# Altium schematic symbol library ADC1175-50CIMTXNOPB.SchLib: 1 symbol
Pins are listed as number, name and electrical type; pins without a type are passive.

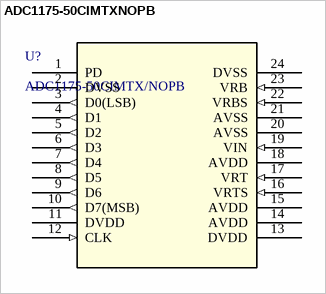
[diagram p0: symbol ADC1175-50CIMTXNOPB]

## ADC1175-50CIMTXNOPB
designator U?, comment ADC1175-50CIMTX/NOPB
8-Bit 50MSPS Analog-to-Digital Converter (ADC) 24-TSSOP -20 to 75; Manufacturer_Name: Texas Instruments; Copyright: Copyright (C) 2026 Ultra Librarian. All rights reserved.; Manufacturer_Part_Number: ADC1175-50CIMTX/NOPB; RefDes: RefDes; Type: Type
footprint PW24_TEX
pins: 1 PD (power), 2 DVSS (power), 3 D0(LSB) (out), 4 D1 (out), 5 D2 (out), 6 D3 (out), 7 D4 (out), 8 D5 (out), 9 D6 (out), 10 D7(MSB) (out), 11 DVDD (power), 12 CLK (in), 13 DVDD (power), 14 AVDD (power), 15 AVDD (power), 16 VRTS (in), 17 VRT (in), 18 AVDD (power), 19 VIN (in), 20 AVSS (power), 21 AVSS (power), 22 VRBS (in), 23 VRB (in), 24 DVSS (power)